# EAGLE library part MC34161DG (library HyTechDevices2)
ON Semiconductor MC34161 Dual Channel Voltage Monitor
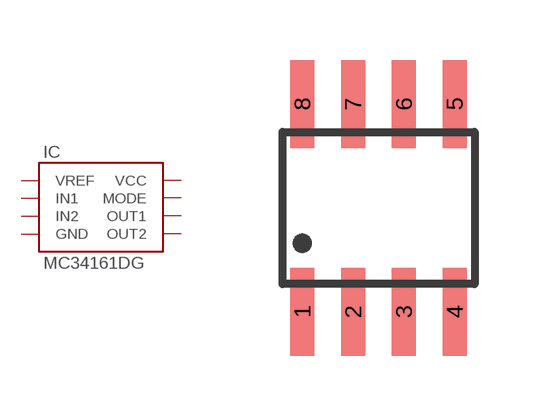
[diagram p41: symbol with the pads of SOIC-08; footprint SOIC-08]

Designator prefix IC

## MC34161DG  [SOIC-08]
1  VREF  pas
2  IN1  pas
3  IN2  pas
4  GND  pas
5  OUT2  pas
6  OUT1  pas
7  MODE  pas
8  VCC  pas

## Footprint SOIC-08 (pad centres in mm)
SMALL OUTLINE INTEGRATED CIRCUIT
smd 0.6 x 2.2: 1 -1.905,-2.6; 2 -0.635,-2.6; 3 0.635,-2.6; 4 1.905,-2.6; 5 1.905,2.6; 6 0.635,2.6; 7 -0.635,2.6; 8 -1.905,2.6